# Altium footprint library 6U6DA_1229.PcbLib: 49 footprints (part 1 of 4)
Each footprint in its own frame and in the unit in brackets; x right, y up, seen from the top. Pads: shape width x height; smd on the part's side, far side on the other; paste and mask are expansions set on the pad; w line width, h text height; cw(c..) or ccw(c..) is an arc to the next point about the centre after c.
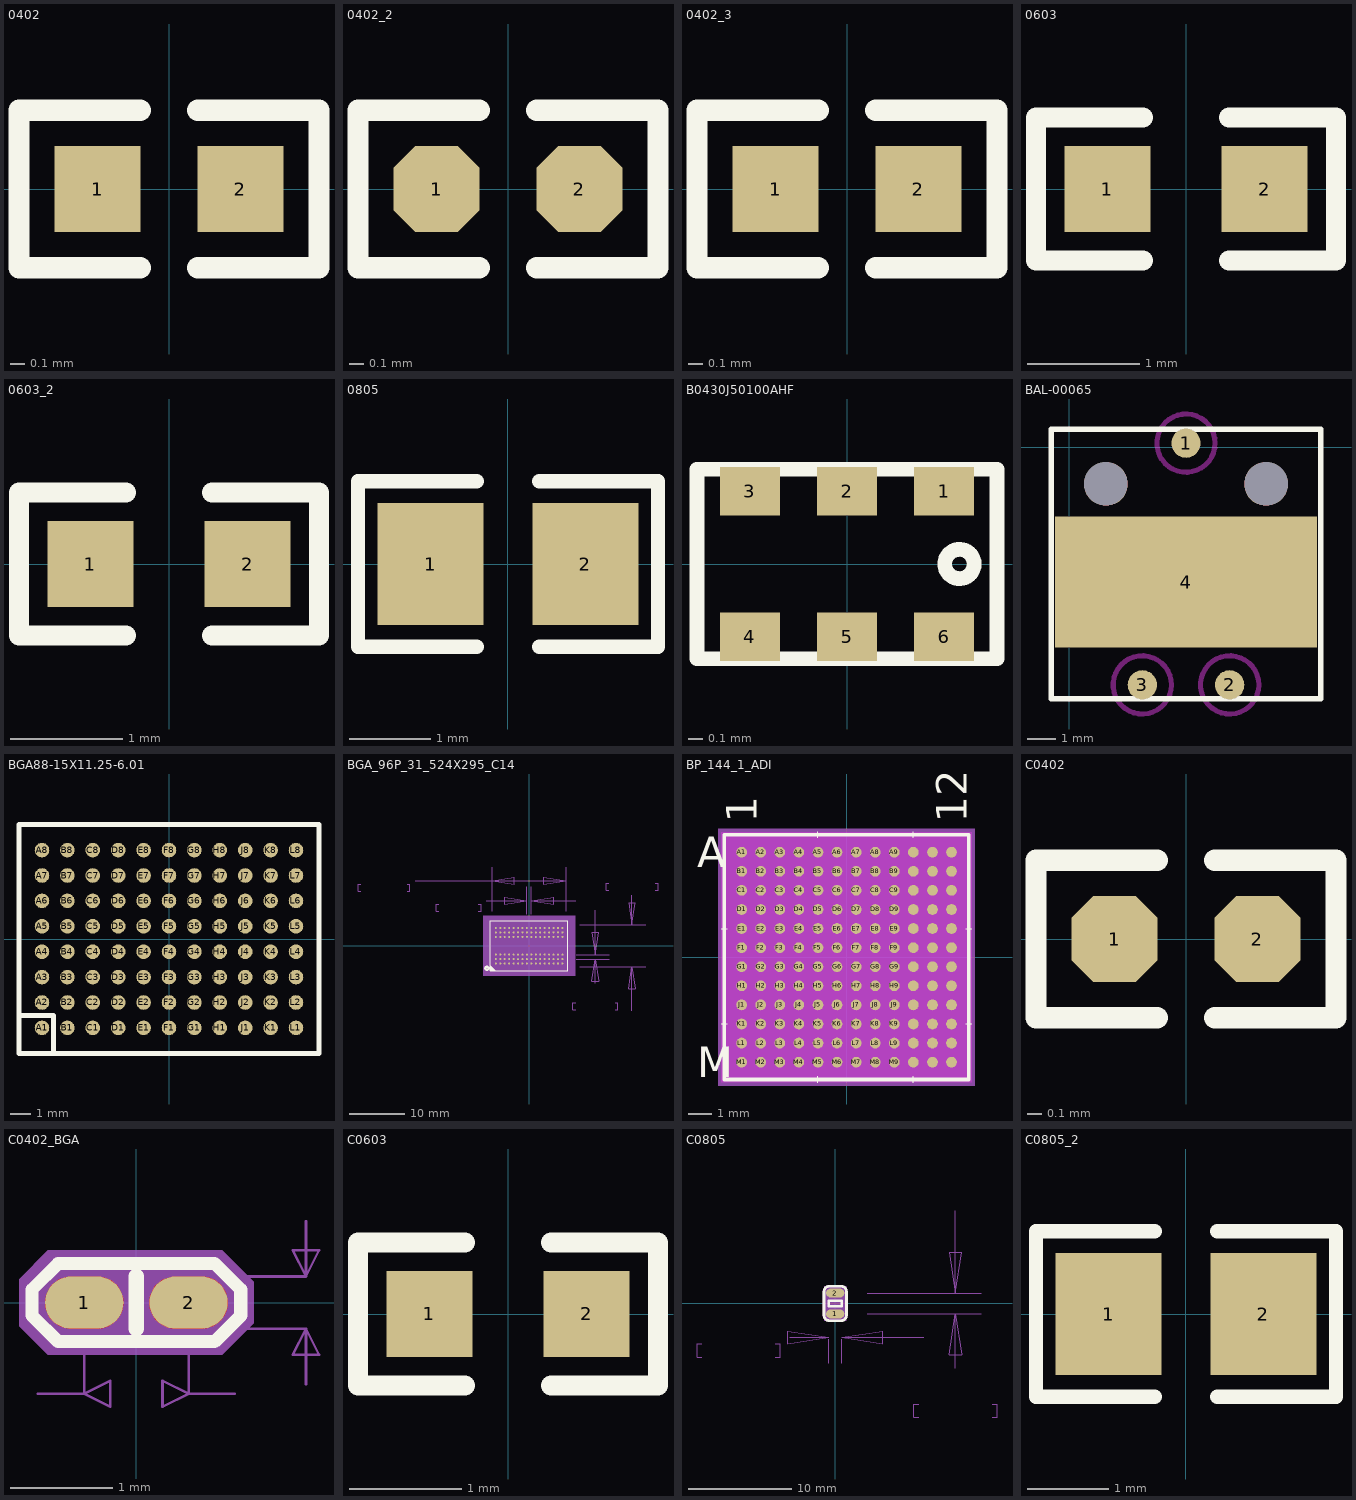
[diagram p0: the footprints below, top view; thin cyan lines are the x and y axes]

## 0402 [mm]
pads (2):
  rect 0.6x0.6 smd: 1(-0.5,0) 2(0.5,0)
Top Overlay:
  lines w0.15: -0.2,-0.55 -1.05,-0.55 -1.05,0.55 -0.2,0.55 ; 0.2,-0.55 1.05,-0.55 1.05,0.55 0.2,0.55

## 0402_2 [mm]
pads (2):
  oct 0.6x0.6 smd: 1(-0.5,0) 2(0.5,0)
Top Overlay:
  lines w0.15: -0.2,-0.55 -1.05,-0.55 -1.05,0.55 -0.2,0.55 ; 0.2,-0.55 1.05,-0.55 1.05,0.55 0.2,0.55

## 0402_3 [mm]
pads (2):
  rect 0.6x0.6 smd: 1(-0.5,0) 2(0.5,0)
Top Overlay:
  lines w0.15: -0.2,-0.55 -1.05,-0.55 -1.05,0.55 -0.2,0.55 ; 0.2,-0.55 1.05,-0.55 1.05,0.55 0.2,0.55

## 0603 [mil]
pads (2):
  rect 30x30 smd: 1(-27.5,0) 2(27.5,0)
Top Overlay:
  lines w7: -15,-25 -52.5,-25 -52.5,25 -15,25 ; 15,-25 52.5,-25 52.5,25 15,25

## 0603_2 [mil]
pads (2):
  rect 30x30 smd: 1(-27.5,0) 2(27.5,0)
Top Overlay:
  lines w7: -15,-25 -52.5,-25 -52.5,25 -15,25 ; 15,-25 52.5,-25 52.5,25 15,25

## 0805 [mm]
pads (2):
  rect 1.3x1.5 smd: 1(-0.95,0) 2(0.95,0)
Top Overlay:
  lines w0.178: -0.381,-1.019 -1.841,-1.019 -1.841,1.019 -0.381,1.019 ; 0.381,-1.019 1.842,-1.019 1.842,1.019 0.381,1.019

## B0430J50100AHF [mm]
pads (6):
  rect 0.41x0.33 smd: 1(0.66,0.495) 2(0,0.495) 3(-0.66,0.495) 4(-0.66,-0.495) 5(0,-0.495) 6(0.66,-0.495)
Top Overlay:
  circle w0.1: c0.765,0 r0.1
  lines w0.1: -1.02,-0.645 -1.02,0.645 1.02,0.645 1.02,-0.645 -1.02,-0.645

## BAL-00065 [mil]
pads (6):
  round 40.2 smd mask+4: 1(160,6) 2(220,-326) 3(100,-326)
  rect 360x180 smd mask+4: 4(160,-185)
  round 60 hole 60 unplated mask+4: ""(50,-50) ""(270,-50)
Top Overlay:
  lines w7: -25,-345 345,-345 345,25 -25,25 -25,-345
Keep-Out Layer:
  circle w7: c160,6 r40
  circle w7: c100,-326 r40
  circle w7: c220,-326 r40
Drill Drawing:
  lines w7: 0,-320 320,-320 320,0 0,0 0,-320

## BGA88-15X11.25-6.01 [mm]
pads (88):
  round 0.73 smd: A1(-6.35,-4.445) A2(-6.35,-3.175) A3(-6.35,-1.905) A4(-6.35,-0.635) A5(-6.35,0.635) A6(-6.35,1.905) A7(-6.35,3.175) A8(-6.35,4.445) B1(-5.08,-4.445) B2(-5.08,-3.175) B3(-5.08,-1.905) B4(-5.08,-0.635) B5(-5.08,0.635) B6(-5.08,1.905) B7(-5.08,3.175) B8(-5.08,4.445) C1(-3.81,-4.445) C2(-3.81,-3.175) C3(-3.81,-1.905) C4(-3.81,-0.635) C5(-3.81,0.635) C6(-3.81,1.905) C7(-3.81,3.175) C8(-3.81,4.445) D1(-2.54,-4.445) D2(-2.54,-3.175) D3(-2.54,-1.905) D4(-2.54,-0.635) D5(-2.54,0.635) D6(-2.54,1.905) D7(-2.54,3.175) D8(-2.54,4.445) E1(-1.27,-4.445) E2(-1.27,-3.175) E3(-1.27,-1.905) E4(-1.27,-0.635) E5(-1.27,0.635) E6(-1.27,1.905) E7(-1.27,3.175) E8(-1.27,4.445) F1(0,-4.445) F2(0,-3.175) F3(0,-1.905) F4(0,-0.635) F5(0,0.635) F6(0,1.905) F7(0,3.175) F8(0,4.445) G1(1.27,-4.445) G2(1.27,-3.175) G3(1.27,-1.905) G4(1.27,-0.635) G5(1.27,0.635) G6(1.27,1.905) G7(1.27,3.175) G8(1.27,4.445) H1(2.54,-4.445) H2(2.54,-3.175) H3(2.54,-1.905) H4(2.54,-0.635) H5(2.54,0.635) H6(2.54,1.905) H7(2.54,3.175) H8(2.54,4.445) J1(3.81,-4.445) J2(3.81,-3.175) J3(3.81,-1.905) J4(3.81,-0.635) J5(3.81,0.635) J6(3.81,1.905) J7(3.81,3.175) J8(3.81,4.445) K1(5.08,-4.445) K2(5.08,-3.175) K3(5.08,-1.905) K4(5.08,-0.635) K5(5.08,0.635) K6(5.08,1.905) K7(5.08,3.175) K8(5.08,4.445) L1(6.35,-4.445) L2(6.35,-3.175) L3(6.35,-1.905) L4(6.35,-0.635) L5(6.35,0.635) L6(6.35,1.905) L7(6.35,3.175) L8(6.35,4.445)
Top Overlay:
  lines w0.254: -7.493,-3.835 -5.765,-3.835 -5.765,-5.715 ; -7.5,-5.715 -7.5,5.715 7.5,5.715 7.5,-5.715 -7.5,-5.715

## BGA_96P_31_524X295_C14 [mil] "BGA_96P_31_524X295_C14"
pads (96):
  round 14 smd: A1(-236.22,-125.98) A2(-236.22,-94.49) A3(-236.22,-62.99) A7(-236.22,62.99) A8(-236.22,94.49) A9(-236.22,125.98) B1(-204.72,-125.98) B2(-204.72,-94.49) B3(-204.72,-62.99) B7(-204.72,62.99) B8(-204.72,94.49) B9(-204.72,125.98) C1(-173.23,-125.98) C2(-173.23,-94.49) C3(-173.23,-62.99) C7(-173.23,62.99) C8(-173.23,94.49) C9(-173.23,125.98) D1(-141.73,-125.98) D2(-141.73,-94.49) D3(-141.73,-62.99) D7(-141.73,62.99) D8(-141.73,94.49) D9(-141.73,125.98) E1(-110.24,-125.98) E2(-110.24,-94.49) E3(-110.24,-62.99) E7(-110.24,62.99) E8(-110.24,94.49) E9(-110.24,125.98) F1(-78.74,-125.98) F2(-78.74,-94.49) F3(-78.74,-62.99) F7(-78.74,62.99) F8(-78.74,94.49) F9(-78.74,125.98) G1(-47.24,-125.98) G2(-47.24,-94.49) G3(-47.24,-62.99) G7(-47.24,62.99) G8(-47.24,94.49) G9(-47.24,125.98) H1(-15.75,-125.98) H2(-15.75,-94.49) H3(-15.75,-62.99) H7(-15.75,62.99) H8(-15.75,94.49) H9(-15.75,125.98) J1(15.75,-125.98) J2(15.75,-94.49) J3(15.75,-62.99) J7(15.75,62.99) J8(15.75,94.49) J9(15.75,125.98) K1(47.24,-125.98) K2(47.24,-94.49) K3(47.24,-62.99) K7(47.24,62.99) K8(47.24,94.49) K9(47.24,125.98) L1(78.74,-125.98) L2(78.74,-94.49) L3(78.74,-62.99) L7(78.74,62.99) L8(78.74,94.49) L9(78.74,125.98) M1(110.24,-125.98) M2(110.24,-94.49) M3(110.24,-62.99) M7(110.24,62.99) M8(110.24,94.49) M9(110.24,125.98) N1(141.73,-125.98) N2(141.73,-94.49) N3(141.73,-62.99) N7(141.73,62.99) N8(141.73,94.49) N9(141.73,125.98) P1(173.23,-125.98) P2(173.23,-94.49) P3(173.23,-62.99) P7(173.23,62.99) P8(173.23,94.49) P9(173.23,125.98) R1(204.72,-125.98) R2(204.72,-94.49) R3(204.72,-62.99) R7(204.72,62.99) R8(204.72,94.49) R9(204.72,125.98) T1(236.22,-125.98) T2(236.22,-94.49) T3(236.22,-62.99) T7(236.22,62.99) T8(236.22,94.49) T9(236.22,125.98)
Top Overlay:
  circle w15: c-300,-160 r11.18
  lines w3.94: -275.98,-142.52 -275.2,-142.52 -241.73,-175.98 -248.82,-175.98 -275.2,-149.61 -275.2,-156.3 -255.12,-176.38 -261.42,-176.38 -274.41,-163.39 -274.41,-170.08 -268.11,-176.38 ; -275.59,-177.16 -275.59,177.16 275.59,177.16 275.59,-177.16 -275.59,-177.16
  text ".Designator" at -327.51,-7.51 h25
Mechanical 5:
  circle w15: c-300,-160 r11.18
  lines w3.94: -275.98,-142.52 -275.2,-142.52 -241.73,-175.98 -248.82,-175.98 -275.2,-149.61 -275.2,-156.3 -255.12,-176.38 -261.42,-176.38 -274.41,-163.39 -274.41,-170.08 -268.11,-176.38 ; -275.59,-177.16 -275.59,177.16 275.59,177.16 275.59,-177.16 -275.59,-177.16
  text "U4" at -362.51,27.5 h25
Mechanical 13:
  lines w1: -1195.67,385.04 -1214.57,385.04 -1214.57,435.04 -1195.67,435.04 ; -864.57,385.04 -845.67,385.04 -845.67,435.04 -864.57,435.04 ; -807.87,459.84 -261.81,459.84 ; -640.16,244.88 -659.06,244.88 -659.06,294.88 -640.16,294.88 ; -359.84,244.88 -340.94,244.88 -340.94,294.88 -359.84,294.88 ; -303.54,320.08 -15.75,320.08 ; -261.81,246.06 -261.81,558.27 ; -15.75,224.41 -15.75,418.5 ; 15.75,224.41 15.75,418.5 ; 261.81,246.06 261.81,558.27 ; 329.92,-455.12 311.02,-455.12 311.02,-405.12 329.92,-405.12 ; 330.71,320.08 15.75,320.08 ; 334.65,-94.49 568.5,-94.49 ; 334.65,-62.99 568.5,-62.99 ; 360.24,-147.64 828.35,-147.64 ; 360.24,147.64 828.35,147.64 ; 470.08,-267.32 470.08,-94.49 ; 470.08,251.97 470.08,-62.99 ; 564.57,394.88 545.67,394.88 545.67,444.88 564.57,444.88 ; 609.84,-455.12 629.13,-455.12 629.13,-405.12 609.84,-405.12 ; 729.92,-462.6 729.92,-147.64 ; 729.92,357.48 729.92,147.64 ; 895.67,394.88 914.57,394.88 914.57,444.88 895.67,444.88 ; -261.81,459.84 261.81,459.84 ; -261.81,459.84 -104.33,435.43 -104.33,484.65 -261.81,459.84 ; -15.75,320.08 -173.23,344.49 -173.23,295.28 -15.75,320.08 ; 15.75,320.08 173.23,295.28 173.23,344.49 15.75,320.08 ; 261.81,459.84 104.33,484.65 104.33,435.43 261.81,459.84 ; 470.08,-94.49 445.28,-251.97 494.49,-251.97 470.08,-94.49 ; 470.08,-62.99 494.49,94.49 445.28,94.49 470.08,-62.99 ; 729.92,-147.64 705.51,-305.12 754.72,-305.12 729.92,-147.64 ; 729.92,147.64 754.72,305.12 705.51,305.12 729.92,147.64
  text "295.28" at 583.46,394.88 h50
  text "7.5" at 659.84,494.88 h50
  text "523.62" at -1176.38,385.04 h50
  text "13.3" at -1125.59,485.04 h50
  text "31.50" at 348.82,-455.12 h50
  text "0.8" at 400,-355.12 h50
  text "31.50" at -620.87,244.88 h50
  text "0.8" at -570.08,344.88 h50
Mechanical 14:
  text "T9" at 236.22,146.14 h25.2
  text "P9" at 173.23,146.14 h25.2
  text "M9" at 110.24,146.14 h25.2
  text "J8" at 15.75,114.65 h25.2
  text "T1" at 236.22,-105.82 h25.2
  text "P1" at 173.23,-105.82 h25.2
  text "M1" at 110.24,-105.82 h25.2
  text "J2" at 15.75,-74.33 h25.2
  text "A9" at -236.22,146.14 h25.2
  text "B9" at -204.72,146.14 h25.2
  text "B3" at -204.72,-42.83 h25.2
  text "G8" at -47.24,114.65 h25.2
  text "G9" at -47.24,146.14 h25.2
  text "F9" at -78.74,146.14 h25.2
  text "E8" at -110.24,114.65 h25.2
  text "D8" at -141.73,114.65 h25.2
  text "G1" at -47.24,-105.82 h25.2
  text "E1" at -110.24,-105.82 h25.2
  text "E2" at -110.24,-74.33 h25.2
  text "D1" at -141.73,-105.82 h25.2
  text "B1" at -204.72,-105.82 h25.2
  text "L9" at 78.74,146.14 h25.2
  text "L1" at 78.74,-105.82 h25.2
  text "J9" at 15.75,146.14 h25.2
  text "J1" at 15.75,-105.82 h25.2
  text "B7" at -204.72,83.15 h25.2
  text "F3" at -78.74,-42.83 h25.2
  text "P8" at 173.23,114.65 h25.2
  text "H3" at -15.75,-42.83 h25.2
  text "P2" at 173.23,-74.33 h25.2
  text "E3" at -110.24,-42.83 h25.2
  text "A3" at -236.22,-42.83 h25.2
  text "A7" at -236.22,83.15 h25.2
  text "F8" at -78.74,114.65 h25.2
  text "R3" at 204.72,-42.83 h25.2
  text "N7" at 141.73,83.15 h25.2
  text "F7" at -78.74,83.15 h25.2
  text "M7" at 110.24,83.15 h25.2
  text "C3" at -173.23,-42.83 h25.2
  text "D7" at -141.73,83.15 h25.2
  text "T8" at 236.22,114.65 h25.2
  text "P7" at 173.23,83.15 h25.2
  text "T3" at 236.22,-42.83 h25.2
  text "C2" at -173.23,-74.33 h25.2
  text "N2" at 141.73,-74.33 h25.2
  text "G2" at -47.24,-74.33 h25.2
  text "A2" at -236.22,-74.33 h25.2
  text "H7" at -15.75,83.15 h25.2
  text "R8" at 204.72,114.65 h25.2
  text "N3" at 141.73,-42.83 h25.2
  text "F2" at -78.74,-74.33 h25.2
  text "C8" at -173.23,114.65 h25.2
  text "P3" at 173.23,-42.83 h25.2
  text "T2" at 236.22,-74.33 h25.2
  text "B8" at -204.72,114.65 h25.2
  text "H8" at -15.75,114.65 h25.2
  text "L7" at 78.74,83.15 h25.2
  text "R7" at 204.72,83.15 h25.2
  text "R2" at 204.72,-74.33 h25.2
  text "T7" at 236.22,83.15 h25.2
  text "K1" at 47.24,-105.82 h25.2
  text "G3" at -47.24,-42.83 h25.2
  text "C7" at -173.23,83.15 h25.2
  text "L8" at 78.74,114.65 h25.2
  text "N8" at 141.73,114.65 h25.2
  text "L2" at 78.74,-74.33 h25.2
  text "M3" at 110.24,-42.83 h25.2
  text "L3" at 78.74,-42.83 h25.2
  text "J3" at 15.75,-42.83 h25.2
  text "K7" at 47.24,83.15 h25.2
  text "J7" at 15.75,83.15 h25.2
  text "K3" at 47.24,-42.83 h25.2
  text "K9" at 47.24,146.14 h25.2
  text "M2" at 110.24,-74.33 h25.2
  text "E7" at -110.24,83.15 h25.2
  text "D3" at -141.73,-42.83 h25.2
  text "M8" at 110.24,114.65 h25.2
  text "H1" at -15.75,-105.82 h25.2
  text "N9" at 141.73,146.14 h25.2
  text "N1" at 141.73,-105.82 h25.2
  text "K2" at 47.24,-74.33 h25.2
  text "H9" at -15.75,146.14 h25.2
  text "G7" at -47.24,83.15 h25.2
  text "A8" at -236.22,114.65 h25.2
  text "C9" at -173.23,146.14 h25.2
  text "D9" at -141.73,146.14 h25.2
  text "E9" at -110.24,146.14 h25.2
  text "K8" at 47.24,114.65 h25.2
  text "H2" at -15.75,-74.33 h25.2
  text "C1" at -173.23,-105.82 h25.2
  text "B2" at -204.72,-74.33 h25.2
  text "A1" at -236.22,-105.82 h25.2
  text "D2" at -141.73,-74.33 h25.2
  text "F1" at -78.74,-105.82 h25.2
  text "R9" at 204.72,146.14 h25.2
  text "R1" at 204.72,-105.82 h25.2
Mechanical 16:
  region: -285,-185 285,-185 285,185 -285,185
  pour cut-out: -325.98,-211.81 325.98,-211.81 325.98,211.81 -325.98,211.81
3D body: height 150, standoff 0, extent -285,-185 285,185

## BP_144_1_ADI [mm]
pads (144):
  round 0.45 smd: A1(-4.4,4.4) A2(-3.6,4.4) A3(-2.8,4.4) A4(-2,4.4) A5(-1.2,4.4) A6(-0.4,4.4) A7(0.4,4.4) A8(1.2,4.4) A9(2,4.4) A10(2.8,4.4) A11(3.6,4.4) A12(4.4,4.4) B1(-4.4,3.6) B2(-3.6,3.6) B3(-2.8,3.6) B4(-2,3.6) B5(-1.2,3.6) B6(-0.4,3.6) B7(0.4,3.6) B8(1.2,3.6) B9(2,3.6) B10(2.8,3.6) B11(3.6,3.6) B12(4.4,3.6) C1(-4.4,2.8) C2(-3.6,2.8) C3(-2.8,2.8) C4(-2,2.8) C5(-1.2,2.8) C6(-0.4,2.8) C7(0.4,2.8) C8(1.2,2.8) C9(2,2.8) C10(2.8,2.8) C11(3.6,2.8) C12(4.4,2.8) D1(-4.4,2) D2(-3.6,2) D3(-2.8,2) D4(-2,2) D5(-1.2,2) D6(-0.4,2) D7(0.4,2) D8(1.2,2) D9(2,2) D10(2.8,2) D11(3.6,2) D12(4.4,2) E1(-4.4,1.2) E2(-3.6,1.2) E3(-2.8,1.2) E4(-2,1.2) E5(-1.2,1.2) E6(-0.4,1.2) E7(0.4,1.2) E8(1.2,1.2) E9(2,1.2) E10(2.8,1.2) E11(3.6,1.2) E12(4.4,1.2) F1(-4.4,0.4) F2(-3.6,0.4) F3(-2.8,0.4) F4(-2,0.4) F5(-1.2,0.4) F6(-0.4,0.4) F7(0.4,0.4) F8(1.2,0.4) F9(2,0.4) F10(2.8,0.4) F11(3.6,0.4) F12(4.4,0.4) G1(-4.4,-0.4) G2(-3.6,-0.4) G3(-2.8,-0.4) G4(-2,-0.4) G5(-1.2,-0.4) G6(-0.4,-0.4) G7(0.4,-0.4) G8(1.2,-0.4) G9(2,-0.4) G10(2.8,-0.4) G11(3.6,-0.4) G12(4.4,-0.4) H1(-4.4,-1.2) H2(-3.6,-1.2) H3(-2.8,-1.2) H4(-2,-1.2) H5(-1.2,-1.2) H6(-0.4,-1.2) H7(0.4,-1.2) H8(1.2,-1.2) H9(2,-1.2) H10(2.8,-1.2) H11(3.6,-1.2) H12(4.4,-1.2) J1(-4.4,-2) J2(-3.6,-2) J3(-2.8,-2) J4(-2,-2) J5(-1.2,-2) J6(-0.4,-2) J7(0.4,-2) J8(1.2,-2) J9(2,-2) J10(2.8,-2) J11(3.6,-2) J12(4.4,-2) K1(-4.4,-2.8) K2(-3.6,-2.8) K3(-2.8,-2.8) K4(-2,-2.8) K5(-1.2,-2.8) K6(-0.4,-2.8) K7(0.4,-2.8) K8(1.2,-2.8) K9(2,-2.8) K10(2.8,-2.8) K11(3.6,-2.8) K12(4.4,-2.8) L1(-4.4,-3.6) L2(-3.6,-3.6) L3(-2.8,-3.6) L4(-2,-3.6) L5(-1.2,-3.6) L6(-0.4,-3.6) L7(0.4,-3.6) L8(1.2,-3.6) L9(2,-3.6) L10(2.8,-3.6) L11(3.6,-3.6) L12(4.4,-3.6) M1(-4.4,-4.4) M2(-3.6,-4.4) M3(-2.8,-4.4) M4(-2,-4.4) M5(-1.2,-4.4) M6(-0.4,-4.4) M7(0.4,-4.4) M8(1.2,-4.4) M9(2,-4.4) M10(2.8,-4.4) M11(3.6,-4.4) M12(4.4,-4.4)
Top Overlay:
  lines w0.025: -5.254,-2.8 -5,-2.8 ; -5.254,1.2 -5,1.2 ; -1.2,-5.254 -1.2,-5 ; -1.2,5 -1.2,5.254 ; 2.8,-5.254 2.8,-5 ; 2.8,5 2.8,5.254 ; 5,-2.8 5.254,-2.8 ; 5,1.2 5.254,1.2
  lines w0.152: -5.127,-5.127 -5.127,5.127 5.127,5.127 5.127,-5.127 -5.127,-5.127
  text "12" at 5.035,5.635 h1.27
  text "1" at -3.765,5.635 h1.27
  text "M" at -6.27,-5.035 h1.27
  text "A" at -6.27,3.765 h1.27
Bottom Overlay:
  text "12" at 3.765,5.635 h1.27
  text "1" at -5.035,5.635 h1.27
  text "M" at -5.635,-5.035 h1.27
  text "A" at -5.635,3.765 h1.27
Keep-Out Layer:
  region: -5.245,-5.245 -5.245,5.245 5.245,5.245 5.245,-5.245
Mechanical 5:
  region: 5.381,-5.381 -5.381,-5.381 -5.381,5.381 5.381,5.381
Mechanical 13:
  lines w0.025: -5,4.6 -4.6,5 ; -5,-5 -5,5 5,5 5,-5 -5,-5
  text "12" at 5.035,5.635 h1.27
  text "1" at -3.765,5.635 h1.27
  text "M" at -6.27,-5.035 h1.27
  text "A" at -6.27,3.765 h1.27
Mechanical 15:
  region: 5.254,-5.254 -5.254,-5.254 -5.254,5.254 5.254,5.254
  lines w0.152: -5.254,-5.254 5.254,-5.254 5.254,5.254 -5.254,5.254 -5.254,-5.254
3D body: height 0.25, standoff 0, extent 0,0 0.254,0.254

## C0402 [mm]
pads (2):
  oct 0.6x0.6 smd: 1(-0.5,0) 2(0.5,0)
Top Overlay:
  lines w0.15: -0.2,-0.55 -1.05,-0.55 -1.05,0.55 -0.2,0.55 ; 0.2,-0.55 1.05,-0.55 1.05,0.55 0.2,0.55

## C0402_BGA [mil] "C0402_BGA"
pads (2):
  oval 30x20 smd: 1(-20,0) 2(20,0)
Top Layer:
  region: 25.7,10 26.5,9.9 27.5,9.7 28.7,9.3 30,8.7 30.9,8.1 31.7,7.5 32.4,6.8 33.1,5.9 33.6,5.2 34.2,4 34.4,3.4 34.45,3.33 34.47,3.29 34.6,2.9 34.9,1.6 35,0.3 35,-0.2 34.98,-0.9 34.8,-2.1 34.6,-2.9 34.39,-3.42 34.3,-3.7 33.8,-4.8 33.1,-5.9 32.3,-6.9 31.78,-7.38 31.6,-7.54 31.3,-7.8 30.6,-8.3 29.4,-9 28.2,-9.5 27.1,-9.8 25.7,-10 14,-10 12.9,-9.8 12.1,-9.6 10.8,-9.1 9.7,-8.5 8.3,-7.5 8.17,-7.3 7.5,-6.7 6.8,-5.8 6.2,-4.8 5.57,-3.37 5.5,-3.2 5.4,-2.8 5.2,-2.1 5.1,-1.6 5,-0.8 5,0.8 5.2,2.1 5.48,3.22 5.61,3.42 5.8,4 6,4.4 6.5,5.3 7.1,6.2 7.8,7 8.18,7.31 8.21,7.36 8.51,7.59 9,8 9.4,8.3 10,8.7 10.8,9.1 11.6,9.4 12.2,9.6 13,9.8 13.5,9.9 14.6,10
  region: -14.3,10 -13.5,9.9 -12.5,9.7 -11.3,9.3 -10,8.7 -9.1,8.1 -8.3,7.5 -7.6,6.8 -6.9,5.9 -6.4,5.2 -5.8,4 -5.6,3.4 -5.55,3.33 -5.53,3.29 -5.4,2.9 -5.1,1.6 -5,0.3 -5,-0.2 -5.02,-0.9 -5.2,-2.1 -5.4,-2.9 -5.61,-3.42 -5.7,-3.7 -6.2,-4.8 -6.9,-5.9 -7.7,-6.9 -8.22,-7.38 -8.4,-7.54 -8.7,-7.8 -9.4,-8.3 -10.6,-9 -11.8,-9.5 -12.9,-9.8 -14.3,-10 -26,-10 -27.1,-9.8 -27.9,-9.6 -29.2,-9.1 -30.3,-8.5 -31.7,-7.5 -31.83,-7.3 -32.5,-6.7 -33.2,-5.8 -33.8,-4.8 -34.43,-3.37 -34.5,-3.2 -34.6,-2.8 -34.8,-2.1 -34.9,-1.6 -35,-0.8 -35,0.8 -34.8,2.1 -34.52,3.22 -34.39,3.42 -34.2,4 -34,4.4 -33.5,5.3 -32.9,6.2 -32.2,7 -31.82,7.31 -31.79,7.36 -31.49,7.59 -31,8 -30.6,8.3 -30,8.7 -29.2,9.1 -28.4,9.4 -27.8,9.6 -27,9.8 -26.5,9.9 -25.4,10
Top Overlay:
  lines w5: -40,-5 -30,-15 30,-15 40,-5 40,5 30,15 -30,15 -40,5 -40,-5
  lines w6: 0,-10 0,10
Mechanical 5:
  lines w5: -37.5,-7.51 -40,-5 -40,5 -37.5,7.51 ; -32.5,-12.49 -30,-15 30,-15 32.5,-12.49 ; -32.5,12.49 -30,15 30,15 32.5,12.49 ; 37.5,-7.51 40,-5 40,5 37.5,7.51
  lines w6: 0,-10 0,10
  text "C156" at 150,20 h25
  text "11_C_0_C0402_BGA_DISCRETE_0.1UF" at -200,50 h50
Mechanical 13:
  lines w1: -37.75,-35 -20,-35 ; -20,0 -20,-35 ; 20,-10 65,-10 ; 20,0 20,-35 ; 20,10 65,10 ; 37.75,-35 20,-35 ; 65,-31.25 65,-10 ; 65,31.25 65,10 ; -20,-35 -10,-30 -10,-40 -20,-35 ; 20,-35 10,-40 10,-30 20,-35 ; 65,-10 70,-20 60,-20 65,-10 ; 65,10 60,20 70,20 65,10
  text "20" at 46,-12.5 h25
  text "40" at -19,-47.5 h25
Mechanical 14:
  text "1" at -20,-10 h25
  text "2" at 20,-10 h25
Mechanical 16:
  pour cut-out: -34,-20 33,-20 45,-8 45,8 33,20 -34,20 -45,9 -45,-9
  region: 29,-12 36,-5 36,12 -29,12 -37,4 -37,-4 -29,-12
  lines w1: -20,-10 20,-10 20,10 -20,10 -20,-10
  lines w5: -40,-5 -30,-15 30,-15 40,-5 40,5 30,15 -30,15 -40,5 -40,-5
  lines w6: 0,-10 0,10
Mechanical 17:
  text "0.1uF" at -25,-70 h25
  text ".Designator" at 75.5,16.67 h50
3D body: height 150, standoff 0, extent -37,-12 36,12

## C0603 [mil]
height 295.28
pads (2):
  rect 30x30 smd: 1(-27.5,0) 2(27.5,0)
Top Overlay:
  lines w7: -15,-25 -52.5,-25 -52.5,25 -15,25 ; 15,-25 52.5,-25 52.5,25 15,25

## C0805 [mil] "C0805"
pads (2):
  oval 70x35 smd: 1(0,-40) 2(0,40)
Top Overlay:
  lines w10: -43,-45.5 ccw(c-23,-45.5) -23,-65.5 23,-65.5 ccw(c23,-45.5) 43,-45.5 43,45.5 ccw(c23,45.5) 23,65.5 -23,65.5 ccw(c-23,45.5) -43,45.5 -43,-45.5 ; -25,-10 -25,10 25,10 25,-10 -25,-10
  text ".Designator" at -66.75,-66.25 h25
Mechanical 5:
  lines w10: -39.99,-56.04 cw(c-23,-45.49) -43,-45.5 -43,45.5 cw(c-23,45.49) -39.99,56.04 ; -33.54,-62.49 ccw(c-22.99,-45.5) -23,-65.5 23,-65.5 ccw(c22.99,-45.5) 33.54,-62.49 ; -33.54,62.49 cw(c-22.99,45.5) -23,65.5 23,65.5 cw(c22.99,45.5) 33.54,62.49 ; 39.99,-56.04 ccw(c23,-45.49) 43,-45.5 43,45.5 ccw(c23,45.49) 39.99,56.04 ; -25,-10 25,-10 25,10 -25,10 -25,-10
  text "C2647" at -66.75,-31.25 h25
Mechanical 13:
  lines w1: -510,-205 -529,-205 -529,-155 -510,-155 ; -230,-205 -211,-205 -211,-155 -230,-155 ; -173.5,-130 -24.61,-130 ; -24.61,-228.43 -24.61,-137.8 ; 24.61,-228.43 24.61,-137.8 ; 123.04,-39.37 558.43,-39.37 ; 123.04,39.37 558.43,39.37 ; 320,-435 301,-435 301,-385 320,-385 ; 339.57,-130 24.61,-130 ; 460,-247.5 460,-39.37 ; 460,354.33 460,39.37 ; 600,-435 619,-435 619,-385 600,-385 ; -24.61,-130 -182.09,-154.6 -182.09,-105.4 -24.61,-130 ; 24.61,-130 182.09,-105.4 182.09,-154.6 24.61,-130 ; 460,-39.37 484.6,-196.85 435.4,-196.85 460,-39.37 ; 460,39.37 435.4,196.85 484.6,196.85 460,39.37
  text "1.25" at -465.5,-105 h36
  text "49.22" at -491,-205 h36
  text "2" at 441,-335 h36
  text "78.74" at 339,-435 h36
Mechanical 14:
  text "2" at 0,28.8 h28
  text "1" at 0,-51.2 h28
Mechanical 16:
  pour cut-out: -43,-65.5 43,-65.5 43,65.5 -43,65.5
  region: -24.61,-39.37 24.61,-39.37 24.61,39.37 -24.61,39.37
  lines w1: -24.61,-39.37 -24.61,39.37 24.61,39.37 24.61,-39.37 -24.61,-39.37
3D body: height 150, standoff 0, extent -24.61,-39.37 24.61,39.37

## C0805_2 [mm]
pads (2):
  rect 1.3x1.5 smd: 1(-0.95,0) 2(0.95,0)
Top Overlay:
  lines w0.178: -0.381,-1.019 -1.841,-1.019 -1.841,1.019 -0.381,1.019 ; 0.381,-1.019 1.842,-1.019 1.842,1.019 0.381,1.019